# Altium footprint library TLP521-2.PcbLib: 2 footprints
Each footprint in its own frame and in the unit in brackets; x right, y up, seen from the top. Pads: shape width x height; smd on the part's side, far side on the other; paste and mask are expansions set on the pad; w line width, h text height; cw(c..) or ccw(c..) is an arc to the next point about the centre after c.
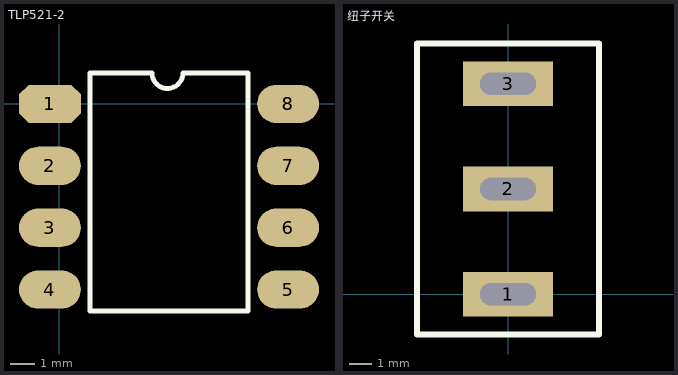
[diagram p0: the footprints below, top view; thin cyan lines are the x and y axes]

## TLP521-2 [mil]
pads (8):
  oct 100x62 smd: 1(-15,0)
  oval 100x62 smd: 2(-15,-100) 3(-15,-200) 4(-15,-300) 5(370,-300) 6(370,-200) 7(370,-100) 8(370,0)
Top Overlay:
  lines w7.87: 50,-335 305,-335 305,50 200,50 cw(c175,50) 150,50 50,50 50,-335

## 纽子开关 [mm]
pads (3):
  rect 4x2 hole 1 slot 2.5 at 0 deg: 1(0,0) 2(0,4.7) 3(0,9.4)
Top Overlay:
  lines w0.254: -4.064,-1.8 -4.064,11.2 ; -4,-1.8 4.064,-1.8 4.064,11.2 -4,11.2